# Altium schematic symbol library Microcontrollers.SchLib: 1 symbol
Pins are listed as number, name and electrical type; pins without a type are passive.

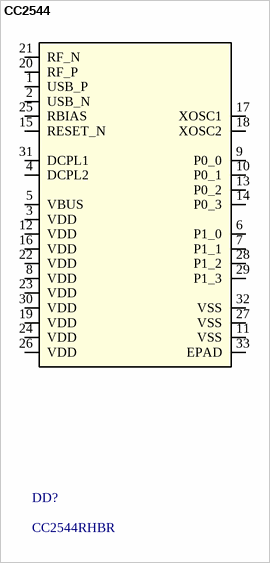
[diagram p0: symbol CC2544]

## CC2544
designator DD?, comment CC2544RHBR
IC RF TXRX+MCU ISM>1GHZ 32-VFQFN; Vendor: TEXAS INSTRUMENTS; RF Family/Standard: General ISM > 1GHZ; Modulation: GFSK, MSK; Frequency: 2.4GHz; Data Rate (Max): 2Mbps; Power - Output: 4dBm; Sensitivity: -96dBm; Memory Size: 32kB Flash, 2kB SRAM; Serial Interfaces: SPI, USART, USB; Voltage - Supply: 2 V ~ 3.6 V; Current - Receiving: 22.5mA; Current - Transmitting: 27mA ~ 30mA; Value: Value; Type: Type; RefDes: RefDes; Supplier 1: Digi-Key; Manufacturer: Texas Instruments; Manufacturer Part Number: CC2544RHBR; RoHS: RoHS Compliant; Category: RF/IF and RFID; Stock 1: 0; Pricing 1: 3000=2.394 (USD); Packaging: Tape & Reel (TR); Part Status: Active; Protocol: -; Operating Temperature: -40°C ~ 85°C; Package / Case: 32-VFQFN Exposed Pad; ComponentLink1URL: http://www.ti.com/lit/ds/symlink/cc2544.pdf; ComponentLink1Description: http://www.ti.com/lit/ds/symlink/cc2544.pdf; Supplier Part Number 1: 296-39982-2-ND
footprint 32-VFQFN
pins: 1 USB_P, 2 USB_N, 3 VDD (power), 4 DCPL2, 5 VBUS (power), 6 P1_0 (io), 7 P1_1 (io), 8 VDD (power), 9 P0_0 (io), 10 P0_1 (io), 11 VSS (power), 12 VDD (power), 13 P0_2 (io), 14 P0_3 (io), 15 RESET_N, 16 VDD (power), 17 XOSC1, 18 XOSC2, 19 VDD (power), 20 RF_P, 21 RF_N, 22 VDD (power), 23 VDD (power), 24 VDD (power), 25 RBIAS, 26 VDD (power), 27 VSS (power), 28 P1_2 (io), 29 P1_3 (io), 30 VDD (power), 31 DCPL1, 32 VSS (power), 33 EPAD